# EAGLE library part STM32F407VGT6 (library reclone-rise)
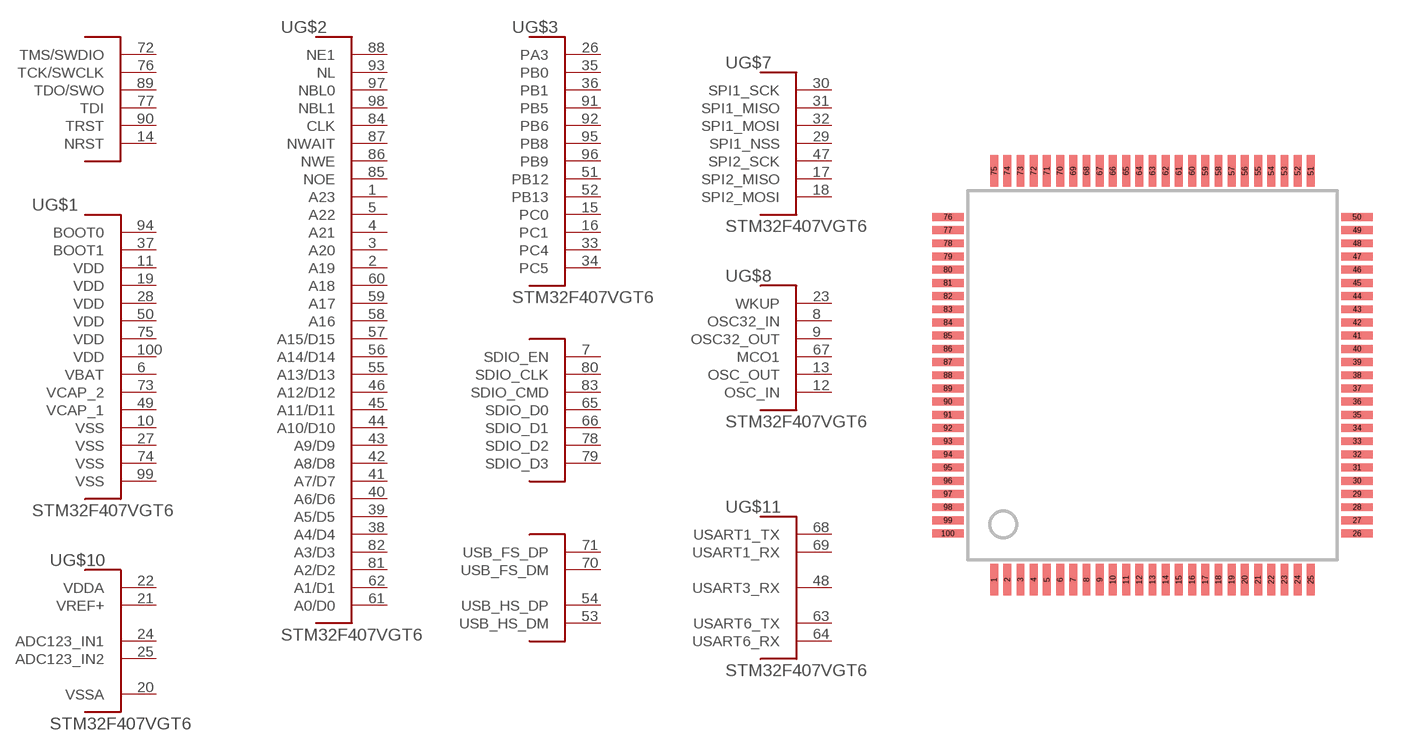
[diagram p1: symbol with the pads of LQFP-100; footprint LQFP-100]

Designator prefix -; gates G$1=STM32F407_PWR G$2=STM32F407_FSMC G$4=STM32F407_SDIO G$5=STM32F407_USB G$6=STM32F407_JTAG G$7=STM32F407_SPI G$8=STM32F407_CLK G$10=STM32F407_AN G$11=STM32F407_USART G$3=STM32F407_GPIO

## STM32F407VGT6 (DIGIKEY#: 497-11605-ND; MANF: STMicroelectronics; MANF#: STM32F407VGT6)  [LQFP-100]
1  G$2:A23
2  G$2:A19
3  G$2:A20
4  G$2:A21
5  G$2:A22
6  G$1:VBAT
7  G$4:SDIO_EN
8  G$8:OSC32_IN
9  G$8:OSC32_OUT
10  G$1:VSS
11  G$1:VDD
12  G$8:OSC_IN
13  G$8:OSC_OUT
14  G$6:NRST
15  G$3:PC0
16  G$3:PC1
17  G$7:SPI2_MISO
18  G$7:SPI2_MOSI
19  G$1:VDD
20  G$10:VSSA
21  G$10:VREF+
22  G$10:VDDA
23  G$8:WKUP
24  G$10:ADC123_IN1
25  G$10:ADC123_IN2
26  G$3:PA3
27  G$1:VSS
28  G$1:VDD
29  G$7:SPI1_NSS
30  G$7:SPI1_SCK
31  G$7:SPI1_MISO
32  G$7:SPI1_MOSI
33  G$3:PC4
34  G$3:PC5
35  G$3:PB0
36  G$3:PB1
37  G$1:BOOT1
38  G$2:A4/D4
39  G$2:A5/D5
40  G$2:A6/D6
41  G$2:A7/D7
42  G$2:A8/D8
43  G$2:A9/D9
44  G$2:A10/D10
45  G$2:A11/D11
46  G$2:A12/D12
47  G$7:SPI2_SCK
48  G$11:USART3_RX
49  G$1:VCAP_1
50  G$1:VDD
51  G$3:PB12
52  G$3:PB13
53  G$5:USB_HS_DM
54  G$5:USB_HS_DP
55  G$2:A13/D13
56  G$2:A14/D14
57  G$2:A15/D15
58  G$2:A16
59  G$2:A17
60  G$2:A18
61  G$2:A0/D0
62  G$2:A1/D1
63  G$11:USART6_TX
64  G$11:USART6_RX
65  G$4:SDIO_D0
66  G$4:SDIO_D1
67  G$8:MCO1
68  G$11:USART1_TX
69  G$11:USART1_RX
70  G$5:USB_FS_DM
71  G$5:USB_FS_DP
72  G$6:TMS/SWDIO
73  G$1:VCAP_2
74  G$1:VSS
75  G$1:VDD
76  G$6:TCK/SWCLK
77  G$6:TDI
78  G$4:SDIO_D2
79  G$4:SDIO_D3
80  G$4:SDIO_CLK
81  G$2:A2/D2
82  G$2:A3/D3
83  G$4:SDIO_CMD
84  G$2:CLK
85  G$2:NOE
86  G$2:NWE
87  G$2:NWAIT
88  G$2:NE1
89  G$6:TDO/SWO
90  G$6:TRST
91  G$3:PB5
92  G$3:PB6
93  G$2:NL
94  G$1:BOOT0
95  G$3:PB8
96  G$3:PB9
97  G$2:NBL0
98  G$2:NBL1
99  G$1:VSS
100  G$1:VDD

## Footprint LQFP-100 (pad centres in mm)
LQFP-100 100-pin, 14x14mm, 0.5mm pitch, SMD package Used for STM32F417VGT6
smd 0.3 x 1.2: 1 -6,-7.75; 2 -5.5,-7.75; 3 -5,-7.75; 4 -4.5,-7.75; 5 -4,-7.75; 6 -3.5,-7.75; 7 -3,-7.75; 8 -2.5,-7.75; 9 -2,-7.75; 10 -1.5,-7.75; 11 -1,-7.75; 12 -0.5,-7.75; 13 0,-7.75; 14 0.5,-7.75; 15 1,-7.75; 16 1.5,-7.75; 17 2,-7.75; 18 2.5,-7.75; 19 3,-7.75; 20 3.5,-7.75; 21 4,-7.75; 22 4.5,-7.75; 23 5,-7.75; 24 5.5,-7.75; 25 6,-7.75; 51 6,7.75; 52 5.5,7.75; 53 5,7.75; 54 4.5,7.75; 55 4,7.75; 56 3.5,7.75; 57 3,7.75; 58 2.5,7.75; 59 2,7.75; 60 1.5,7.75; 61 1,7.75; 62 0.5,7.75; 63 0,7.75; 64 -0.5,7.75; 65 -1,7.75; 66 -1.5,7.75; 67 -2,7.75; 68 -2.5,7.75; 69 -3,7.75; 70 -3.5,7.75; 71 -4,7.75; 72 -4.5,7.75; 73 -5,7.75; 74 -5.5,7.75; 75 -6,7.75
smd 1.2 x 0.3: 26 7.75,-6; 27 7.75,-5.5; 28 7.75,-5; 29 7.75,-4.5; 30 7.75,-4; 31 7.75,-3.5; 32 7.75,-3; 33 7.75,-2.5; 34 7.75,-2; 35 7.75,-1.5; 36 7.75,-1; 37 7.75,-0.5; 38 7.75,0; 39 7.75,0.5; 40 7.75,1; 41 7.75,1.5; 42 7.75,2; 43 7.75,2.5; 44 7.75,3; 45 7.75,3.5; 46 7.75,4; 47 7.75,4.5; 48 7.75,5; 49 7.75,5.5; 50 7.75,6; 76 -7.75,6; 77 -7.75,5.5; 78 -7.75,5; 79 -7.75,4.5; 80 -7.75,4; 81 -7.75,3.5; 82 -7.75,3; 83 -7.75,2.5; 84 -7.75,2; 85 -7.75,1.5; 86 -7.75,1; 87 -7.75,0.5; 88 -7.75,0; 89 -7.75,-0.5; 90 -7.75,-1; 91 -7.75,-1.5; 92 -7.75,-2; 93 -7.75,-2.5; 94 -7.75,-3; 95 -7.75,-3.5; 96 -7.75,-4; 97 -7.75,-4.5; 98 -7.75,-5; 99 -7.75,-5.5; 100 -7.75,-6